# Altium footprint library Footprints.PcbLib: 4 footprints
Each footprint in its own frame and in the unit in brackets; x right, y up, seen from the top. Pads: shape width x height; smd on the part's side, far side on the other; paste and mask are expansions set on the pad; w line width, h text height; cw(c..) or ccw(c..) is an arc to the next point about the centre after c.
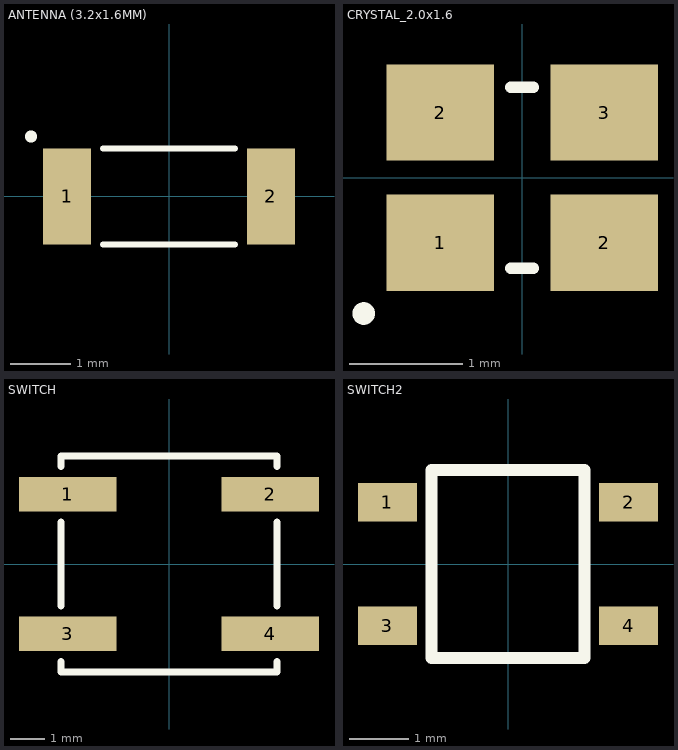
[diagram p0: the footprints below, top view; thin cyan lines are the x and y axes]

## ANTENNA (3.2x1.6MM) [mm]
pads (2):
  rect 0.8x1.6 smd: 1(-1.7,0) 2(1.7,0)
Top Overlay:
  circle w0.1: c-2.3,1 r0.05
  lines w0.1: -1.1,-0.8 1.1,-0.8 ; -1.1,0.8 1.1,0.8
3D body: height 1.3, standoff 0, extent -1.6,-0.8 1.6,0.8

## CRYSTAL_2.0x1.6 [mm]
pads (4):
  rect 0.95x0.85 smd: 1(-0.725,-0.575) 2(-0.725,0.575) 2(0.725,-0.575) 3(0.725,0.575)
Top Overlay:
  circle w0.1: c-1.4,-1.2 r0.05
  lines w0.1: -0.1,-0.8 0.1,-0.8 ; -0.1,0.8 0.1,0.8
3D body: height 0.25, standoff 0, extent -1,1 -1,1
3D body: height 0.5, standoff 0, extent -1,-1 1,1

## SWITCH [mm]
pads (4):
  rect 2.8x1 smd: 1(-2.9,2) 2(2.9,2) 3(-2.9,-2) 4(2.9,-2)
Top Overlay:
  lines w0.2: -3.1,-2.8 -3.1,-3.1 3.1,-3.1 3.1,-2.8 ; -3.1,-1.2 -3.1,1.2 ; -3.1,2.8 -3.1,3.1 3.1,3.1 3.1,2.8 ; 3.1,-1.2 3.1,1.2
3D body "KSC623JLFG.stp": height 7.65, standoff 0, extent -3.4,-3.15 3.4,3.15

## SWITCH2 [mm]
pads (4):
  rect 1x0.65 smd: 1(-2.05,1.05) 2(2.05,1.05) 3(-2.05,-1.05) 4(2.05,-1.05)
Top Overlay:
  lines w0.2: -1.3,-1.6 -1.3,1.6 1.3,1.6 1.3,-1.6 -1.3,-1.6
3D body "PTS810.STEP": height 2.5, standoff 0, extent -2.3,-1.6 2.3,1.6